# Altium schematic symbol library Schlib1.SchLib: 35 symbols (part 1 of 2)
Pins are listed as number, name and electrical type; pins without a type are passive.

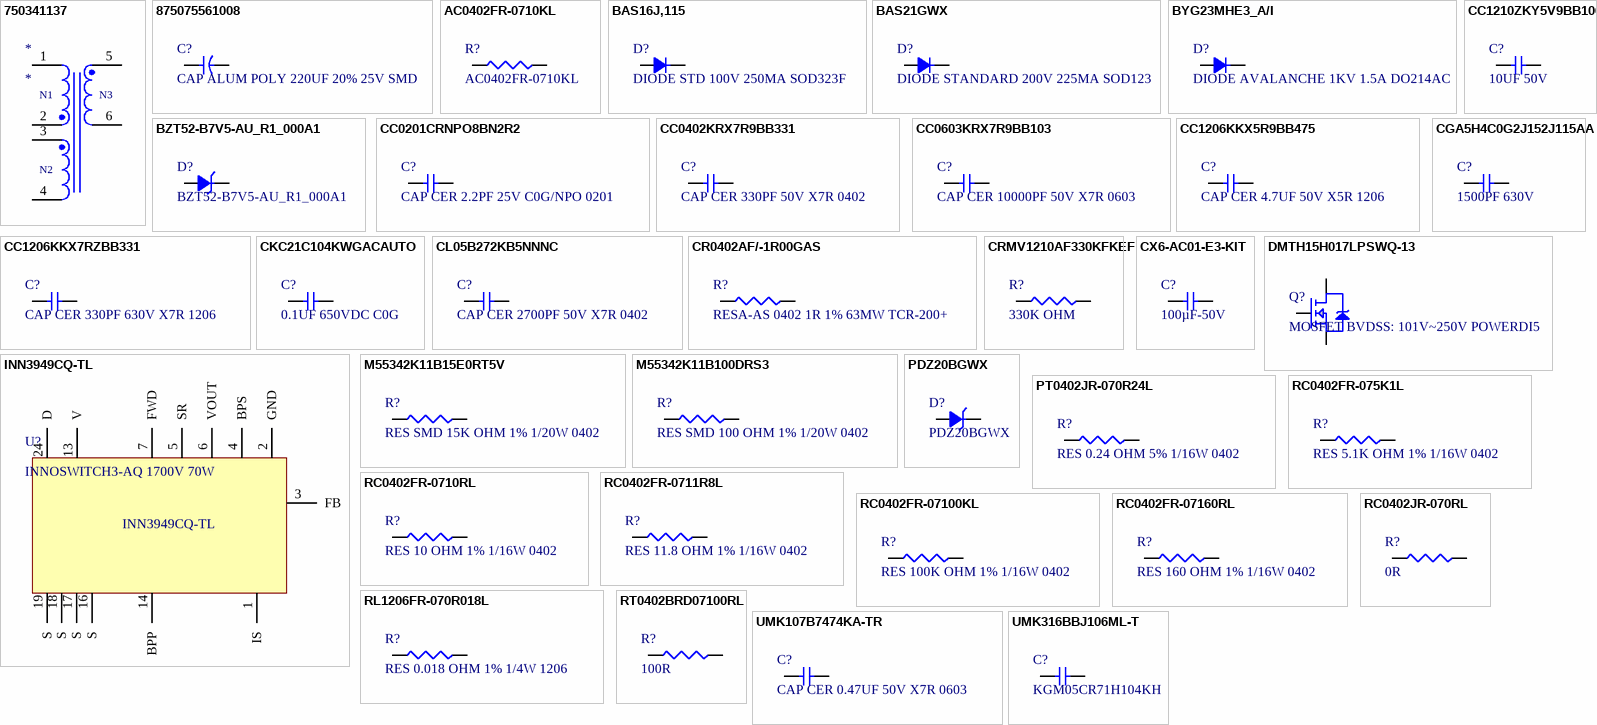
[diagram p0: symbols 750341137 to UMK316BBJ106ML-T]

## 750341137
designator *
Transformer 480UH SMD; Manufacturer: Wurth Electronics; Manufacturer Part Number: 750341137; Frequency: 700kHz; Supplier: Digikey; Supplier Part Number: 732-4446-2-ND; RoHS: Yes; Category: Transformers; Pricing: 1035=9.33725 (USD); Mounting Technology: Surface Mount; Case/Package: SMD/SMT; Min Operating Temperature: -40°C; Max Operating Temperature: 125°C; Package Quantity: 1; Packaging: Tape and Reel; Termination: Terminals; Value: 480uH; Series: -; Length: 29.3mm; Width: 26.67mm; Height: 10.5mm; Height - Seated (Max): 10.5mm; RoHS Compliant: Yes; ComponentLink1URL: https://datasheet.ciiva.com/24028/750341137-254371-24028351.pdf?src-supplier=Mouser; ComponentLink1Description: https://datasheet.ciiva.com/24028/750341137-254371-24028351.pdf?src-supplier=Mouser
footprint ERI25/10/18_250-1446
pins: 1, 2, 3, 4, 5, 6
text: N1; N3; N2

## 875075561008
designator C?, comment CAP ALUM POLY 220UF 20% 25V SMD
220 µF 25 V Aluminum - Polymer Capacitors Radial, Can - SMD 15mOhm 2000 Hrs @ 105°C; Manufacturer: Wurth Electronics; Manufacturer Part Number: 875075561008; Description: WCAP-PSLC Aluminum Polymer Capacitors; ESR (Equivalent Series Resistance): 15mR; Ripple Current: 4.8A; Leakage Current: 1.1mA; Pitch: 10.3mm; Supplier: Digikey; Supplier Part Number: 732-6502-1-ND; RoHS: Yes; Category: Polymer Capacitors; Stock: 759; Pricing: 1=2.03, 50=1.7352, 100=1.512 (USD); Mounting Technology: Surface Mount; Case/Package: Radial; Min Operating Temperature: -55°C; Max Operating Temperature: 105°C; Package Quantity: 1; Packaging: Cut Tape; Voltage Rating: 25V; Tolerance: 20%; Voltage Rating (DC): 25V; Value: 220uF; Series: WCAP-PSLC; Diameter: 10mm; Length: 12.4mm; Width: 10.3mm; Height - Seated (Max): 0.488inch; RoHS Compliant: Yes; Reach SVHC Compliant: Unknown; ComponentLink1URL: http://www.farnell.com/datasheets/1880469.pdf?src-supplier=Farnell; ComponentLink1Description: http://www.farnell.com/datasheets/1880469.pdf?src-supplier=Farnell; ComponentLink2URL: http://katalog.we-online.de/pbs/datasheet/875075561008.pdf?src-supplier=Digikey; ComponentLink2Description: http://katalog.we-online.de/pbs/datasheet/875075561008.pdf?src-supplier=Digikey; ComponentLink3URL: https://katalog.we-online.de/pbs/datasheet/875075561008.pdf?src-supplier=Digikey; ComponentLink3Description: https://katalog.we-online.de/pbs/datasheet/875075561008.pdf?src-supplier=Digikey; ComponentLink4URL: http://www.farnell.com/datasheets/1880469.pdf?src-supplier=Element14; ComponentLink4Description: http://www.farnell.com/datasheets/1880469.pdf?src-supplier=Element14
footprint WCAP-PSLC_D8H11.7 (Aluminum Polymer Capacitor, Diameter 8mm)
pins: 1, 2  2 

## AC0402FR-0710KL
designator R?
SMD Chip Resistor, 10 kOhm, ï¿½ 1%, 62.5 mW, 0402 [1005 Metric], Thick Film, General Purpose; Manufacturer: Yageo; Value: 10kR; Power Rating: 62.5mW; Voltage Rating: 50V; Temperature Coefficient: 100ppm/°C; Max Power Dissipation: 63mW; Supplier: Future Electronics; Supplier Part Number: 2025338; Manufacturer Part Number: AC0402FR-0710KL; RoHS: Yes; Category: Chip SMD Resistors; Stock: 15445000; Pricing: 10000=0.0011, 40000=0.001, 150000=0.001, 400000=0.001, 1000000=0.0009 (USD); Case/Package: 0402; Case Code (Imperial): 0402; Case Code (Metric): 1005; Min Operating Temperature: -55°C; Max Operating Temperature: 155°C; Tolerance: 1%; Packaging: Tape and Reel; Termination: SMD/SMT; Number of Terminations: 2; Features: Moisture Resistant,Automotive AEC-Q200; Series: AC; Length: 0.039inch; Width: 0.02inch; Height: 0.015inch; RoHS Compliant: Yes; ComponentLink1URL: https://datasheet.ciiva.com/12656/pyu-ac-51-rohs-l-2-12656634.pdf?src-supplier=Mouser; ComponentLink1Description: https://datasheet.ciiva.com/12656/pyu-ac-51-rohs-l-2-12656634.pdf?src-supplier=Mouser
pins: 1, 2

## BAS16J,115
designator D?, comment DIODE STD 100V 250MA SOD323F
Diode 100 V 250mA Surface Mount SOD-323F; Manufacturer: Nexperia; Manufacturer Part Number: BAS16J,115; Description: Rectifier Diode Switching 100V 0.25A 4ns Automotive 2-Pin SOD-323F T/R; Value: 1.5pF; Max Forward Surge Current (Ifsm): 500mA; Max Reverse Current: 500nA; Supplier: Future Electronics; Supplier Part Number: 4759361; RoHS: Yes; Category: Rectifier Diodes; Stock: 279000; Pricing: 3000=0.0139, 9000=0.0136, 15000=0.0135, 60000=0.013, 90000=0.0128 (USD); Pins: 2; Max Operating Temperature: 150°C; Forward Current: 250mA; Max Repetitive Reverse Voltage (Vrrm): 100V; Reverse Voltage: 100V; Height: 800um; RoHS Compliant: Yes; ComponentLink1URL: http://www.farnell.com/datasheets/1856332.pdf?src-supplier=Farnell; ComponentLink1Description: http://www.farnell.com/datasheets/1856332.pdf?src-supplier=Farnell; ComponentLink2URL: https://assets.nexperia.com/documents/data-sheet/BAS16_SER.pdf?src-supplier=Digikey; ComponentLink2Description: https://assets.nexperia.com/documents/data-sheet/BAS16_SER.pdf?src-supplier=Digikey; ComponentLink3URL: http://www.farnell.com/datasheets/1856332.pdf?src-supplier=Newark; ComponentLink3Description: http://www.farnell.com/datasheets/1856332.pdf?src-supplier=Newark; ComponentLink4URL: https://datasheet.octopart.com/BAS16J%2C115-Nexperia-datasheet-81455687.pdf?src-supplier=TME; ComponentLink4Description: https://datasheet.octopart.com/BAS16J%2C115-Nexperia-datasheet-81455687.pdf?src-supplier=TME
pins: 1, 2

## BAS21GWX
designator D?, comment DIODE STANDARD 200V 225MA SOD123
Diode 200 V 225mA Surface Mount SOD-123; Manufacturer: Nexperia; Manufacturer Part Number: BAS21GWX; Description: Rectifier Diode Switching 250V 0.225A 50ns Automotive 2-Pin SOD-123 T/R; Supplier: Digikey; Supplier Part Number: 1727-7323-1-ND; RoHS: Yes; Category: Rectifier Diodes; Stock: 49148; Pricing: 1=0.11, 10=0.073, 100=0.054, 500=0.04164, 1000=0.0363 (USD); RoHS Compliant: Yes; ComponentLink1URL: http://www.farnell.com/datasheets/2290146.pdf?src-supplier=Farnell; ComponentLink1Description: http://www.farnell.com/datasheets/2290146.pdf?src-supplier=Farnell; ComponentLink2URL: https://datasheet.octopart.com/BAS21GWX-Nexperia-datasheet-87842693.pdf?src-supplier=Future+Electronics; ComponentLink2Description: https://datasheet.octopart.com/BAS21GWX-Nexperia-datasheet-87842693.pdf?src-supplier=Future+Electronics; ComponentLink3URL: http://www.farnell.com/datasheets/2290146.pdf?src-supplier=Newark; ComponentLink3Description: http://www.farnell.com/datasheets/2290146.pdf?src-supplier=Newark; ComponentLink4URL: https://datasheet.octopart.com/BAS21GWX-Nexperia-datasheet-82522482.pdf?src-supplier=Newark; ComponentLink4Description: https://datasheet.octopart.com/BAS21GWX-Nexperia-datasheet-82522482.pdf?src-supplier=Newark; ComponentLink5URL: http://www.farnell.com/datasheets/2290146.pdf?src-supplier=Element14; ComponentLink5Description: http://www.farnell.com/datasheets/2290146.pdf?src-supplier=Element14
pins: 1, 2

## BYG23MHE3_A/I
designator D?, comment DIODE AVALANCHE 1KV 1.5A DO214AC
Diode 1000 V 1.5A Surface Mount DO-214AC (SMA); Manufacturer: Vishay; Manufacturer Part Number: BYG23MHE3_A/I; Description: 1.5A, 1000V, 75Ns Fast Avalanche Smd |Vishay BYG23MHE3_A/I; Supplier: Mouser; Supplier Part Number: 78-BYG23MHE3_A/I; RoHS: Yes; Category: Rectifier Diodes; Stock: 5398; Pricing: 1=0.48, 10=0.32, 50=0.32, 100=0.205, 1000=0.14, 10000=0.112 (USD); RoHS Compliant: Yes
pins: 1, 2

## BZT52-B7V5-AU_R1_000A1
designator D?
Zener Diode 7.5 V 410 mW ±2% Surface Mount SOD-123; Manufacturer: Panjit; Description: Diode Zener 7.5V 410MW SOD123; Supplier: Digikey; Supplier Part Number: 3757-BZT52-B7V5-AU_R1_000A1CT-ND; Manufacturer Part Number: BZT52-B7V5-AU_R1_000A1; Stock: 2870; Pricing: 1=0.13, 10=0.089, 100=0.046, 500=0.0435, 1000=0.041 (USD)
pins: 1, 2

## CC0201CRNPO8BN2R2
designator C?, comment CAP CER 2.2PF 25V C0G/NPO 0201
2.2 pF ±0.25pF 25V Ceramic Capacitor C0G, NP0 0201 (0603 Metric); Manufacturer: Yageo; Manufacturer Part Number: CC0201CRNPO8BN2R2; Description: Cap Ceramic 2.2pF 25V C0G 0.25pF SMD 0201 125°C Paper T/R; Supplier: Future Electronics; Supplier Part Number: 8113593; RoHS: Yes; Category: Ceramic Capacitors; Stock: 15000; Pricing: 15000=0.0015, 60000=0.0014, 150000=0.0014, 375000=0.0014, 600000=0.0013 (USD); Mounting Technology: Surface Mount; Case/Package: 0201; Case Code (Imperial): 0201; Case Code (Metric): 0603; Min Operating Temperature: -55°C; Max Operating Temperature: 125°C; Packaging: Cut Tape; Value: 2.2pF; Voltage Rating: 25V; Series: CC; Length: 0.024inch; Width: 0.012inch; Thickness: 0.013inch; RoHS Compliant: Yes; ComponentLink1URL: http://www.yageo.com/NewPortal/yageodocoutput?fileName=/pdf/MLCC/UPY-GP_NP0_16V-to-50V_14.pdf&src-supplier=Digikey; ComponentLink1Description: http://www.yageo.com/NewPortal/yageodocoutput?fileName=/pdf/MLCC/UPY-GP_NP0_16V-to-50V_14.pdf&src-supplier=Digikey; ComponentLink2URL: https://www.yageo.com/upload/media/product/productsearch/datasheet/mlcc/UPY-GP_NP0_16V-to-50V_18.pdf?src-supplier=Digikey; ComponentLink2Description: https://www.yageo.com/upload/media/product/productsearch/datasheet/mlcc/UPY-GP_NP0_16V-to-50V_18.pdf?src-supplier=Digikey
pins: 1, 2  2 

## CC0402KRX7R9BB331
designator C?, comment CAP CER 330PF 50V X7R 0402
330 pF ±10% 50V Ceramic Capacitor X7R 0402 (1005 Metric); Manufacturer: Yageo; Manufacturer Part Number: CC0402KRX7R9BB331; Description: 0402 330 pF 50 V ±10 % Tolerance X7R SMT Multilayer Ceramic Capacitor; Insulation Resistance: 100GR; Temperature Coefficient: 30ppm/°C; Supplier: Future Electronics; Supplier Part Number: 6360333; RoHS: Yes; Category: Ceramic Capacitors; Stock: 80000; Pricing: 10000=0.0017, 40000=0.0016, 150000=0.0015, 300000=0.0015, 750000=0.0014 (USD); Mounting Technology: Surface Mount; Case/Package: 0402; Case Code (Imperial): 0402; Case Code (Metric): 1005; Dielectric Material: Ceramic; Material: Ceramic; Min Operating Temperature: -55°C; Max Operating Temperature: 125°C; Value: 330pF; Packaging: Tape and Reel; Tolerance: 10%; Voltage Rating: 50V; Voltage Rating (DC): 50V; Package Quantity: 1; Dielectric: X7R; Termination: SMD/SMT; Series: CC; Voltage Rating (AC): 50V; Length: 1mm; Width: 0.02inch; Height: 0.5mm; Thickness: 0.022inch; Depth: 0.5mm; Radiation Hardening: No; Reach SVHC Compliant: No; Lead Free: Lead Free; Halogen Free: Halogen Free; RoHS Compliant: Yes; ComponentLink1URL: https://datasheet.ciiva.com/143/mlccorderingcode-143965.pdf?src-supplier=Digikey; ComponentLink1Description: https://datasheet.ciiva.com/143/mlccorderingcode-143965.pdf?src-supplier=Digikey; ComponentLink2URL: https://datasheet.ciiva.com/143/mlccorderingcode-143966.pdf?src-supplier=Digikey; ComponentLink2Description: https://datasheet.ciiva.com/143/mlccorderingcode-143966.pdf?src-supplier=Digikey; ComponentLink3URL: https://datasheet.ciiva.com/143/mlccorderingcode-143967.pdf?src-supplier=Digikey; ComponentLink3Description: https://datasheet.ciiva.com/143/mlccorderingcode-143967.pdf?src-supplier=Digikey; ComponentLink4URL: https://datasheet.ciiva.com/11464/upy-gphc-x7r-6-3v-to-50v-8-11464908.pdf?src-supplier=Avnet; ComponentLink4Description: https://datasheet.ciiva.com/11464/upy-gphc-x7r-6-3v-to-50v-8-11464908.pdf?src-supplier=Avnet; ComponentLink5URL: https://datasheet.ciiva.com/7978/1489800-7978101.pdf?src-supplier=Element14; ComponentLink5Description: https://datasheet.ciiva.com/7978/1489800-7978101.pdf?src-supplier=Element14; ComponentLink6URL: https://datasheet.ciiva.com/8033/1489800-8033628.pdf?src-supplier=Element14; ComponentLink6Description: https://datasheet.ciiva.com/8033/1489800-8033628.pdf?src-supplier=Element14; ComponentLink7URL: https://datasheet.ciiva.com/8033/1489800-8033629.pdf?src-supplier=Element14; ComponentLink7Description: https://datasheet.ciiva.com/8033/1489800-8033629.pdf?src-supplier=Element14; ComponentLink8URL: https://datasheet.ciiva.com/46394/1489800-46394572.pdf?src-supplier=Element14; ComponentLink8Description: https://datasheet.ciiva.com/46394/1489800-46394572.pdf?src-supplier=Element14; ComponentLink9URL: https://datasheet.ciiva.com/5425/upy-gphc-x7r-6-3v-to-50v-8-5425451.pdf?src-supplier=Mouser; ComponentLink9Description: https://datasheet.ciiva.com/5425/upy-gphc-x7r-6-3v-to-50v-8-5425451.pdf?src-supplier=Mouser
pins: 1, 2  2 

## CC0603KRX7R9BB103
designator C?, comment CAP CER 10000PF 50V X7R 0603
10000 pF ±10% 50V Ceramic Capacitor X7R 0603 (1608 Metric); Manufacturer: Yageo; Manufacturer Part Number: CC0603KRX7R9BB103; Description: 0603 10 nF 50 V ±10 % Tolerance X7R SMT Multilayer Ceramic Capacitor; Value: 10nF; Insulation Resistance: 100GR; Supplier: Future Electronics; Supplier Part Number: 4131256; RoHS: Yes; Category: Ceramic Capacitors; Stock: 3216000; Pricing: 4000=0.003, 16000=0.0029, 60000=0.0028, 160000=0.0027, 400000=0.0026 (USD); Mounting Technology: Surface Mount; Case/Package: 0603; Pins: 2; Case Code (Metric): 1608; Case Code (Imperial): 0603; Material: Ceramic; Min Operating Temperature: -55°C; Max Operating Temperature: 125°C; Tolerance: 10%; Packaging: Tape and Reel; Voltage Rating: 50V; Voltage Rating (DC): 50V; Package Quantity: 1; Dielectric: X7R; Termination: SMD/SMT; Voltage: 50V; Series: CC; Length: 1.6mm; Width: 0.031inch; Height: 0.8mm; Thickness: 0.035inch; Depth: 0.8mm; Radiation Hardening: No; Lead Free: Lead Free; RoHS Compliant: Yes; Reach SVHC Compliant: Unknown; Halogen Free: 5694HalogenFree; ComponentLink1URL: https://datasheet.ciiva.com/26862/getdatasheetpartid-403582-26862846.pdf?src-supplier=Verical; ComponentLink1Description: https://datasheet.ciiva.com/26862/getdatasheetpartid-403582-26862846.pdf?src-supplier=Verical; ComponentLink2URL: https://datasheet.ciiva.com/11788/0900766b8079c870-11788374.pdf?src-supplier=Rs; ComponentLink2Description: https://datasheet.ciiva.com/11788/0900766b8079c870-11788374.pdf?src-supplier=Rs; ComponentLink3URL: https://datasheet.ciiva.com/176/mlccorderingcode-176550.pdf?src-supplier=Digikey; ComponentLink3Description: https://datasheet.ciiva.com/176/mlccorderingcode-176550.pdf?src-supplier=Digikey; ComponentLink4URL: https://datasheet.ciiva.com/176/mlccorderingcode-176551.pdf?src-supplier=Digikey; ComponentLink4Description: https://datasheet.ciiva.com/176/mlccorderingcode-176551.pdf?src-supplier=Digikey; ComponentLink5URL: https://datasheet.ciiva.com/176/mlccorderingcode-176552.pdf?src-supplier=Digikey; ComponentLink5Description: https://datasheet.ciiva.com/176/mlccorderingcode-176552.pdf?src-supplier=Digikey; ComponentLink6URL: https://datasheet.ciiva.com/8033/1734573-8033816.pdf?src-supplier=Element14; ComponentLink6Description: https://datasheet.ciiva.com/8033/1734573-8033816.pdf?src-supplier=Element14; ComponentLink7URL: https://datasheet.ciiva.com/8033/70765-8033817.pdf?src-supplier=Element14; ComponentLink7Description: https://datasheet.ciiva.com/8033/70765-8033817.pdf?src-supplier=Element14; ComponentLink8URL: https://datasheet.ciiva.com/8033/1734573-8033861.pdf?src-supplier=Element14; ComponentLink8Description: https://datasheet.ciiva.com/8033/1734573-8033861.pdf?src-supplier=Element14; ComponentLink9URL: https://datasheet.ciiva.com/28450/1489800-28450619.pdf?src-supplier=Element14; ComponentLink9Description: https://datasheet.ciiva.com/28450/1489800-28450619.pdf?src-supplier=Element14; ComponentLink10URL: https://datasheet.ciiva.com/13389/upy-gphc-x7r-6-3v-to-50v-8-13389991.pdf?src-supplier=Mouser; ComponentLink10Description: https://datasheet.ciiva.com/13389/upy-gphc-x7r-6-3v-to-50v-8-13389991.pdf?src-supplier=Mouser
pins: 1, 2  2 

## CC1206KKX5R9BB475
designator C?, comment CAP CER 4.7UF 50V X5R 1206
4.7 µF ±10% 50V Ceramic Capacitor X5R 1206 (3216 Metric); Manufacturer: Yageo; Manufacturer Part Number: CC1206KKX5R9BB475; Description: Multilayer Ceramic Capacitor, 4.7 uF, 50 V, ± 10%, X5R, 1206 [3216 Metric]; Supplier: Future Electronics; Supplier Part Number: 7083448; RoHS: Yes; Category: Ceramic Capacitors; Stock: 10000; Pricing: 2000=0.056, 6000=0.0545, 8000=0.0541, 20000=0.0529, 30000=0.0518 (USD); Mounting Technology: Surface Mount; Case/Package: 1206; Pins: 2; Case Code (Metric): 3216; Case Code (Imperial): 1206; Weight: 0.000571oz; Material: Ceramic; Min Operating Temperature: -55°C; Max Operating Temperature: 85°C; Packaging: Tape and Reel; Value: 4.7uF; Voltage Rating: 50V; Tolerance: 10%; Dielectric: X5R; Termination: SMD/SMT; Voltage Rating (DC): 50V; Package Quantity: 2000; Series: CC; Length: 0.126inch; Width: 0.063inch; Height: 1.45mm; Thickness: 0.071inch; Lead Free: Lead Free; Halogen Free: Halogen Free; RoHS Compliant: Yes; ComponentLink1URL: http://www.mouser.com/ds/2/447/Yageo_UPY-GP_NP0_16V-to-50V_9-358835.pdf?src-supplier=Mouser; ComponentLink1Description: http://www.mouser.com/ds/2/447/Yageo_UPY-GP_NP0_16V-to-50V_9-358835.pdf?src-supplier=Mouser; ComponentLink2URL: http://www.yageo.com/documents/recent/UPY-GPHC_X5R_4V-to-50V_25.pdf?src-supplier=Digikey; ComponentLink2Description: http://www.yageo.com/documents/recent/UPY-GPHC_X5R_4V-to-50V_25.pdf?src-supplier=Digikey; ComponentLink3URL: https://datasheet.octopart.com/CC1206KKX5R9BB475-Yageo-datasheet-158238148.pdf?src-supplier=Newark; ComponentLink3Description: https://datasheet.octopart.com/CC1206KKX5R9BB475-Yageo-datasheet-158238148.pdf?src-supplier=Newark; ComponentLink4URL: https://datasheet.octopart.com/CC1206KKX5R9BB475-Yageo-datasheet-170350636.pdf?src-supplier=Future+Electronics; ComponentLink4Description: https://datasheet.octopart.com/CC1206KKX5R9BB475-Yageo-datasheet-170350636.pdf?src-supplier=Future+Electronics
pins: 1, 2  2 

## CC1206KKX7RZBB331
designator C?, comment CAP CER 330PF 630V X7R 1206
330 pF ±10% 630V Ceramic Capacitor X7R 1206 (3216 Metric); Manufacturer: Yageo; Manufacturer Part Number: CC1206KKX7RZBB331; Description: Cap Ceramic 330pF 630Vdc X7R 10% SMD 1206 125°C T/R; Voltage Rating (AC): 250V; Supplier: Digikey; Supplier Part Number: 13-CC1206KKX7RZBB331CT-ND; RoHS: Yes; Category: Ceramic Capacitors; Stock: 2165; Pricing: 1=0.21, 10=0.118, 100=0.0739, 1000=0.05119 (USD); Mounting Technology: Surface Mount; Case/Package: 1206; Case Code (Imperial): 1206; Case Code (Metric): 3216; Weight: 0.000571oz; Min Operating Temperature: -55°C; Max Operating Temperature: 125°C; Value: 330pF; Packaging: Tape and Reel; Tolerance: 10%; Dielectric: X7R; Voltage Rating: 630V; Termination: SMD/SMT; Series: CC; Length: 0.126inch; Width: 1.6mm; Thickness: 0.057inch; RoHS Compliant: Yes; ComponentLink1URL: https://datasheet.ciiva.com/13265/upy-gp-np0-16v-to-50v-8-3714-13265679.pdf?src-supplier=Mouser; ComponentLink1Description: https://datasheet.ciiva.com/13265/upy-gp-np0-16v-to-50v-8-3714-13265679.pdf?src-supplier=Mouser
pins: 1, 2  2 

## CC1210ZKY5V9BB106
designator C?, comment 10UF 50V
10 µF -20%, +80% 50V Ceramic Capacitor Y5V (F) 1210 (3225 Metric); Manufacturer: Yageo; Manufacturer Part Number: CC1210ZKY5V9BB106; Description: 1210 10 uF 50 V -20 / +80 % Tolerance Y5V Multilayer Ceramic Capacitor; Tolerance: 80%; Supplier: Future Electronics; Supplier Part Number: 7061931; RoHS: Yes; Category: Ceramic Capacitors; Stock: 502000; Pricing: 2000=0.106, 4000=0.105, 6000=0.104, 10000=0.102 (USD); Mounting Technology: Surface Mount; Case/Package: 1210; Case Code (Imperial): 1210; Case Code (Metric): 3225; Weight: 0.000564oz; Min Operating Temperature: -30°C; Max Operating Temperature: 85°C; Value: 10uF; Voltage Rating (DC): 50V; Packaging: Tape and Reel; Dielectric: Y5V; Voltage Rating: 50V; Series: CC; Length: 0.126inch; Width: 0.098inch; Lead Free: Lead Free; Halogen Free: Halogen Free; RoHS Compliant: Yes; ComponentLink1URL: http://www.yageo.com/documents/recent/UPY-GPHC_Y5V_6.3V-to-50V_7.pdf?src-supplier=Digikey; ComponentLink1Description: http://www.yageo.com/documents/recent/UPY-GPHC_Y5V_6.3V-to-50V_7.pdf?src-supplier=Digikey; ComponentLink2URL: http://www.yageo.com/documents/recent/UPY-GPHC_Y5V_6.3V-to-50V_8.pdf?src-supplier=Digikey; ComponentLink2Description: http://www.yageo.com/documents/recent/UPY-GPHC_Y5V_6.3V-to-50V_8.pdf?src-supplier=Digikey; ComponentLink3URL: https://www.yageo.com/upload/media/product/productsearch/datasheet/mlcc/UPY-GPHC_Y5V_6.3V-to-50V_9.pdf?src-supplier=Digikey; ComponentLink3Description: https://www.yageo.com/upload/media/product/productsearch/datasheet/mlcc/UPY-GPHC_Y5V_6.3V-to-50V_9.pdf?src-supplier=Digikey; ComponentLink4URL: https://datasheet.octopart.com/CC1210ZKY5V9BB106-Yageo-datasheet-78855689.pdf?src-supplier=Future+Electronics; ComponentLink4Description: https://datasheet.octopart.com/CC1210ZKY5V9BB106-Yageo-datasheet-78855689.pdf?src-supplier=Future+Electronics
pins: 1, 2  2 

## CGA5H4C0G2J152J115AA
designator C?, comment 1500PF 630V
1500 pF ±5% 630V Ceramic Capacitor C0G, NP0 1206 (3216 Metric); Manufacturer: TDK; Manufacturer Part Number: CGA5H4C0G2J152J115AA; Description: Cap Ceramic 0.0015uF 630V C0G 5% Pad SMD 1206 125C Automotive T/R; Value: 1.5nF; Temperature Coefficient: 30ppm/°C; Supplier: Digikey; Supplier Part Number: 445-5791-1-ND; RoHS: Yes; Category: Ceramic Capacitors; Stock: 26828; Pricing: 1=0.31, 10=0.185, 100=0.1193, 1000=0.08557, 2000=0.07299, 4000=0.06809, 6000=0.06774, 10000=0.06318, 14000=0.06088, 20000=0.06067, 50000=0.05812, 100000=0.05475 (USD); Mounting Technology: Surface Mount; Case/Package: 1206; Case Code (Metric): 3216; Case Code (Imperial): 1206; Weight: 0.000571oz; Material: Ceramic; Min Operating Temperature: -55°C; Max Operating Temperature: 125°C; Voltage Rating (DC): 630V; Tolerance: 5%; Packaging: Tape and Reel; Package Quantity: 1; Voltage Rating: 630V; Dielectric: C0G; Termination: SMD/SMT; Series: CGA; Length: 3.2mm; Width: 0.063inch; Height: 1.15mm; Thickness: 0.051inch; Depth: 1.6mm; Ratings: AEC-Q200; Reach SVHC Compliant: No; RoHS Compliant: Yes; ComponentLink1URL: http://www.farnell.com/datasheets/2130384.pdf?src-supplier=Farnell; ComponentLink1Description: http://www.farnell.com/datasheets/2130384.pdf?src-supplier=Farnell; ComponentLink2URL: http://components.arrow.com/part/dataview/57437045S460270N1165?src-supplier=Arrow+Electronics; ComponentLink2Description: http://components.arrow.com/part/dataview/57437045S460270N1165?src-supplier=Arrow+Electronics; ComponentLink3URL: http://www.mouser.com/ds/2/400/lcc_automotive_midvoltage_en-355485.pdf?src-supplier=Mouser; ComponentLink3Description: http://www.mouser.com/ds/2/400/lcc_automotive_midvoltage_en-355485.pdf?src-supplier=Mouser; ComponentLink4URL: https://product.tdk.com/info/en/documents/chara_sheet/CGA5H4C0G2J152J115AA.pdf?src-supplier=Digikey; ComponentLink4Description: https://product.tdk.com/info/en/documents/chara_sheet/CGA5H4C0G2J152J115AA.pdf?src-supplier=Digikey; ComponentLink5URL: https://product.tdk.com/info/en/catalog/spec/mlccspec_automotive_general_midvoltage_en.pdf?src-supplier=Digikey; ComponentLink5Description: https://product.tdk.com/info/en/catalog/spec/mlccspec_automotive_general_midvoltage_en.pdf?src-supplier=Digikey; ComponentLink6URL: https://datasheet.octopart.com/CGA5H4C0G2J152J115AA-TDK-datasheet-151546527.pdf?src-supplier=Farnell; ComponentLink6Description: https://datasheet.octopart.com/CGA5H4C0G2J152J115AA-TDK-datasheet-151546527.pdf?src-supplier=Farnell; ComponentLink7URL: https://datasheet.octopart.com/CGA5H4C0G2J152J115AA-TDK-datasheet-13376850.pdf?src-supplier=Newark; ComponentLink7Description: https://datasheet.octopart.com/CGA5H4C0G2J152J115AA-TDK-datasheet-13376850.pdf?src-supplier=Newark; ComponentLink8URL: http://www.farnell.com/datasheets/2130384.pdf?src-supplier=Element14; ComponentLink8Description: http://www.farnell.com/datasheets/2130384.pdf?src-supplier=Element14; ComponentLink9URL: http://www.tdk.co.jp/tefe02/e413_cga.pdf?src-supplier=Avnet; ComponentLink9Description: http://www.tdk.co.jp/tefe02/e413_cga.pdf?src-supplier=Avnet
pins: 1, 2  2 

## CKC21C104KWGACAUTO
designator C?, comment 0.1UF 650VDC C0G
0.1 µF ±10% 650V Ceramic Capacitor C0G, NP0 2220 (5750 Metric); Manufacturer: KEMET; Manufacturer Part Number: CKC21C104KWGACAUTO; Description: Kc-link 2220 0.1UF 650VDC C0G; Supplier: Mouser; Supplier Part Number: 80-CKC21C104KWGCAUTO; RoHS: No; Category: Ceramic Capacitors; Stock: 339; Pricing: 1=3.68, 10=2.61, 50=2.6, 100=2.04, 1000=1.65, 10000=1.63 (USD)
pins: 1, 2  2 

## CL05B272KB5NNNC
designator C?, comment CAP CER 2700PF 50V X7R 0402
2700 pF ±10% 50V Ceramic Capacitor X7R 0402 (1005 Metric); Manufacturer: Samsung; Manufacturer Part Number: CL05B272KB5NNNC; Description: Multilayer Ceramic Capacitor, 2700 pF, 50 V, ± 10%, X7R, 0402 [1005 Metric]; Value: 2.7nF; Supplier: Digikey; Supplier Part Number: 1276-1268-1-ND; RoHS: Yes; Category: Ceramic Capacitors; Stock: 44934; Pricing: 1=0.1, 10=0.02, 100=0.0112, 1000=0.00673, 2500=0.00564, 5000=0.005 (USD); Mounting Technology: Surface Mount; Case/Package: 0402; Case Code (Metric): 1005; Case Code (Imperial): 0402; Material: Ceramic; Min Operating Temperature: -55°C; Max Operating Temperature: 125°C; Tolerance: 10%; Packaging: Tape and Reel; Voltage Rating: 50V; Dielectric: X7R; Voltage: 50V; Series: CL; Construction: Flat; Voltage Rating (DC): 50V; Length: 1mm; Height: 0.5mm; Depth: 0.5mm; Radiation Hardening: No; RoHS Compliant: Yes; ComponentLink1URL: https://datasheet.ciiva.com/25806/cl05b272kb5nnnc-25806643.pdf?src-supplier=Digikey; ComponentLink1Description: https://datasheet.ciiva.com/25806/cl05b272kb5nnnc-25806643.pdf?src-supplier=Digikey; ComponentLink2URL: https://datasheet.ciiva.com/16200/cl05b272kb5nnnc-16200555.pdf?src-supplier=Future+Electronics; ComponentLink2Description: https://datasheet.ciiva.com/16200/cl05b272kb5nnnc-16200555.pdf?src-supplier=Future+Electronics; ComponentLink3URL: https://datasheet.ciiva.com/26838/getdatasheetpartid-640423-26838234.pdf?src-supplier=Verical; ComponentLink3Description: https://datasheet.ciiva.com/26838/getdatasheetpartid-640423-26838234.pdf?src-supplier=Verical
pins: 1, 2  2 

## CR0402AF/-1R00GAS
designator R?, comment RESA-AS 0402 1R 1% 63MW TCR-200+
1 Ohms ±1% 0.063W, 1/16W Chip Resistor 0402 (1005 Metric) Anti-Sulfur, Automotive AEC-Q200, Moisture Resistant Thick Film; Manufacturer: Bourns; Manufacturer Part Number: CR0402AF/-1R00GAS; Description: SMD Chip Resistor, 1 Ohm, ± 1%, 63 mW, 0402 [1005 Metric], Thick Film, Anti-Sulfur; Voltage Rating: 50V; Supplier: Arrow Electronics; Supplier Part Number: CR0402AF/-1R00GAS; RoHS: Yes; Category: Chip SMD Resistors; Stock: 60000; Pricing: 10000=0.0012 (USD); Case/Package: 0402; Min Operating Temperature: -55°C; Max Operating Temperature: 155°C; Power Rating: 63mW; Value: 1R; Tolerance: 1%; Height: 370um
pins: 1, 2

## CRMV1210AF330KFKEF
designator R?, comment 330K OHM
330 kOhms ±1% 0.35W Chip Resistor 1210 (3225 Metric) High Voltage Thick Film; Manufacturer: Vishay; Manufacturer Part Number: CRMV1210AF330KFKEF; Description: CRMV1210AF 330K 1% 100 Ef E3; Supplier: Mouser; Supplier Part Number: 71-CRMV1210AF330KFKF; Category: Chip SMD Resistors; Stock: 8000; Pricing: 1=0.61, 10=0.333, 50=0.333, 100=0.206, 1000=0.144, 10000=0.117 (USD)
pins: 1, 2

## CX6-AC01-E3-KIT
designator C?, comment 100µF-50V
Ceramic Capacitor Kit 1µF ~ 100µF 4 ~ 50V Surface Mount, MLCC 110 Pieces (11 Values - 10 Each); Manufacturer: TDK; Manufacturer Part Number: CX6-AC01-E3-KIT; Description: X6S Commercial Mlcc Kit; Supplier: DigiKey; Supplier Part Number: 445-182068-KIT-ND; Pricing: 1=39.16, 10=34.016 (USD)
pins: 1, 2  2 

## DMTH15H017LPSWQ-13
designator Q?, comment MOSFET BVDSS: 101V~250V POWERDI5
N-Channel 150 V 8A (Ta), 50A (Tc) 1.5W (Ta), 107W (Tc) Surface Mount, Wettable Flank PowerDI5060-8 (Type UX); Manufacturer: Diodes; Manufacturer Part Number: DMTH15H017LPSWQ-13; Description: Mosfet Mosfet Bvdss 101V-250V POWERDI5060-8/SWP Tr 2.5K; Drain to Source Breakdown Voltage: 150V; Drain to Source Resistance: 13mR; Gate to Source Voltage (Vgs): 20V; Number of Channels: 1; Turn-Off Delay Time: 44.6ns; Turn-On Delay Time: 10.5ns; Supplier: Digikey; Supplier Part Number: 31-DMTH15H017LPSWQ-13CT-ND; RoHS: No; Category: MOSFETs; Stock: 3956; Pricing: 1=1.92, 10=1.428, 100=1.0169, 500=0.91924, 1000=0.82222 (USD); Min Operating Temperature: -55°C; Max Operating Temperature: 175°C; Continuous Drain Current (ID): 8A; Drain to Source Voltage (Vdss): 150V; Power Dissipation: 1.5W; Height: 1.1mm
pins: 1, 2, 3

## INN3949CQ-TL
designator U?, comment INNOSWITCH3-AQ 1700V 70W
Ac-Dc Conv, Flyback, -40 To 150Deg C Rohs Compliant: Yes |Power Integrations INN3949CQ-TL; Supplier: Digikey; Supplier Part Number: 596-INN3949CQ-TLCT-ND; Manufacturer: Power Integrations; Manufacturer Part Number: INN3949CQ-TL; RoHS: No; Stock: 1849; Pricing: 1=15.11, 100=12.4903 (USD)
pins: 1 IS, 2 GND, 3 FB, 4 BPS, 5 SR, 6 VOUT, 7 FWD, 13 V, 14 BPP, 16 S, 17 S, 18 S, 19 S, 24 D

## M55342K11B15E0RT5V
designator R?, comment RES SMD 15K OHM 1% 1/20W 0402
15 kOhms ±1% 0.05W, 1/20W Chip Resistor 0402 (1005 Metric) Military, Non-Inductive Thin Film; Manufacturer: Vishay Dale; Manufacturer Part Number: M55342K11B15E0RT5V; Description: Res Thnflm 0402 15K Ohm 0.05W 1% 100PPM 0.01% SMD; Value: 15kR; Max Power Dissipation: 50mW; Temperature Coefficient: 100ppm/°C; Supplier: Digikey; Supplier Part Number: 764-M55342K11B15E0RT5VTR-ND; RoHS: No; Category: Chip SMD Resistors; Pricing: 500=1.3608 (USD); Case/Package: 0402; Case Code (Metric): 1005; Case Code (Imperial): 0402; Min Operating Temperature: -55°C; Max Operating Temperature: 150°C; Package Quantity: 500; Packaging: Tape and Reel; Tolerance: 1%; Number of Terminations: 2; Failure Rate: 0.01%; Features: Military; Series: Military, MIL-PRF-55342, RM0402; Length: 0.04inch; Width: 0.025inch; Height: 0.03inch; Thickness: 254um; RoHS Compliant: No; ComponentLink1URL: https://datasheet.ciiva.com/14998/eh-14998168.pdf?src-supplier=Digikey; ComponentLink1Description: https://datasheet.ciiva.com/14998/eh-14998168.pdf?src-supplier=Digikey
pins: 1, 2

## M55342K11B100DRS3
designator R?, comment RES SMD 100 OHM 1% 1/20W 0402
100 Ohms ±1% 0.05W, 1/20W Chip Resistor 0402 (1005 Metric) Military Thick Film; Manufacturer: Vishay Dale; Manufacturer Part Number: M55342K11B100DRS3; Description: SMD Chip Resistor, 100 Ohm, ± 1%, 50 mW, 0402 [1005 Metric], Thick Film, Military Reliability; Value: 100R; Max Power Dissipation: 50mW; Temperature Coefficient: 100ppm/°C; Supplier: Mouser; Supplier Part Number: 75-M55342K11B100DRS3; RoHS: No; Category: Chip SMD Resistors; Stock: 980; Pricing: 1=1.82, 10=1.24, 50=1.24, 100=0.962, 1000=0.836, 10000=0.75 (USD); Case/Package: 0402; Case Code (Metric): 1005; Case Code (Imperial): 0402; Contact Plating: Tin,Lead; Min Operating Temperature: -55°C; Max Operating Temperature: 150°C; Package Quantity: 1; Tolerance: 1%; Packaging: Tape and Reel; Number of Terminations: 2; Failure Rate: 0.01%; Features: Military; Series: Military, MIL-PRF-55342, RM0402; Construction: Rectangular; Length: 0.039inch; Width: 0.02inch; Height: 0.016inch; Depth: 0.51mm; Radiation Hardening: No; Military Standard: MIL-PRF-55342; RoHS Compliant: No; ComponentLink1URL: https://datasheet.ciiva.com/2528/rcwpm-2528448.pdf?src-supplier=Digikey; ComponentLink1Description: https://datasheet.ciiva.com/2528/rcwpm-2528448.pdf?src-supplier=Digikey; ComponentLink2URL: https://datasheet.ciiva.com/14075/rcwpm-14075307.pdf?src-supplier=Digikey; ComponentLink2Description: https://datasheet.ciiva.com/14075/rcwpm-14075307.pdf?src-supplier=Digikey; ComponentLink3URL: https://datasheet.ciiva.com/14075/rcwpm-14075308.pdf?src-supplier=Digikey; ComponentLink3Description: https://datasheet.ciiva.com/14075/rcwpm-14075308.pdf?src-supplier=Digikey; ComponentLink4URL: https://datasheet.ciiva.com/8980/rcwpm-8980509.pdf?src-supplier=Avnet; ComponentLink4Description: https://datasheet.ciiva.com/8980/rcwpm-8980509.pdf?src-supplier=Avnet
pins: 1, 2

## PDZ20BGWX
designator D?
DIODE ZENER 20V 365MW SOD123; Manufacturer: Nexperia; Description: PDZ20BGW/SOD123/SOD2; Supplier: Digikey; Supplier Part Number: 1727-PDZ20BGWXCT-ND; Manufacturer Part Number: PDZ20BGWX; RoHS: Yes; Category: Zener Diodes; Stock: 4330; Pricing: 1=0.17, 10=0.106, 100=0.0652, 500=0.04742, 1000=0.04163 (USD); RoHS Compliant: Yes; ComponentLink1URL: https://datasheet.octopart.com/PDZ20BGWX-Nexperia-datasheet-96189609.pdf?src-supplier=Farnell; ComponentLink1Description: https://datasheet.octopart.com/PDZ20BGWX-Nexperia-datasheet-96189609.pdf?src-supplier=Farnell
pins: 1, 2

## PT0402JR-070R24L
designator R?, comment RES 0.24 OHM 5% 1/16W 0402
Current Sensor-Low TCR Chip Resistor Thick Film 0402 240mOhm 5% Paper T/R; Manufacturer: Yageo; Manufacturer Part Number: PT0402JR-070R24L; Value: 240mR; Max Power Dissipation: 63mW; Temperature Coefficient: 200ppm/°C; Supplier: Digikey; Supplier Part Number: PT0402JR-070R24L-ND; RoHS: Yes; Category: Chip SMD Resistors; Pricing: 10000=0.04053 (USD); Case/Package: 0402; Min Operating Temperature: -55°C; Max Operating Temperature: 155°C; Packaging: Tape and Reel; Number of Terminations: 2; Tolerance: 5%; Features: Moisture Resistant,Automotive AEC-Q200; Series: PT; Ratings: AEC-Q200; RoHS Compliant: Yes; ComponentLink1URL: https://www.yageo.com/upload/media/product/productsearch/datasheet/rchip/PYu-PT-Group_521_RoHS_L_2.pdf?src-supplier=Digikey; ComponentLink1Description: https://www.yageo.com/upload/media/product/productsearch/datasheet/rchip/PYu-PT-Group_521_RoHS_L_2.pdf?src-supplier=Digikey
pins: 1, 2

## RC0402FR-075K1L
designator R?, comment RES 5.1K OHM 1% 1/16W 0402
5.1 kOhms ±1% 0.063W, 1/16W Chip Resistor 0402 (1005 Metric) Moisture Resistant Thick Film; Manufacturer: Yageo; Manufacturer Part Number: RC0402FR-075K1L; Description: SMD Chip Resistor, 5.1 kOhm, ï¿½ 1%, 62.5 mW, 0402 [1005 Metric], Thick Film, General Purpose; Power Rating: 63mW; Voltage Rating: 50V; Value: 5.1kR; Temperature Coefficient: 100ppm/°C; Supplier: Future Electronics; Supplier Part Number: 6053649; RoHS: Yes; Category: Chip SMD Resistors; Stock: 240000; Pricing: 10000=0.0007, 50000=0.0007, 200000=0.0007, 500000=0.0007, 1250000=0.0006 (USD); Case/Package: 0402; Case Code (Metric): 1005; Case Code (Imperial): 0402; Min Operating Temperature: -55°C; Max Operating Temperature: 155°C; Tolerance: 1%; Packaging: Tape and Reel; Package Quantity: 1; Resistor Type: Thick Film; Number of Terminations: 2; Termination: SMD/SMT; Max Power Dissipation: 63mW; Voltage Rating (DC): 50V; Features: Moisture Resistant; Series: RC; Resistance Tolerance: 1%; Technology: THICK FILM; Working Voltage: 50V; Construction: Rectangular; Length: 1mm; Width: 0.02inch; Height: 0.016inch; Depth: 0.5mm; Lead Free: Lead Free; RoHS Compliant: Yes; Reach SVHC Compliant: Unknown; Military Standard: Not
pins: 1, 2

## RC0402FR-0710RL
designator R?, comment RES 10 OHM 1% 1/16W 0402
Res Thick Film 0402 11.8 Ohm 1% 0.063W(1/16W) ±100ppm/C Pad SMD T/R; Manufacturer: Yageo; Manufacturer Part Number: RC0402FR-0710RL; Description: SMD Chip Resistor, 10 Ohm, ï¿½ 1%, 62.5 mW, 0402 [1005 Metric], Thick Film, General Purpose; Power Rating: 62.5mW; Voltage Rating: 50V; Value: 10R; Temperature Coefficient: 200ppm/°C; Max Power Dissipation: 63mW; Supplier: Digikey; Supplier Part Number: 311-10.0LRCT-ND; RoHS: Yes; Category: Chip SMD Resistors; Stock: 589245; Pricing: 1=0.1, 10=0.011, 100=0.0082, 1000=0.00612, 2500=0.0051, 10000=0.0039, 20000=0.00349, 30000=0.00329, 50000=0.00307, 70000=0.00295, 100000=0.00283, 250000=0.00259, 500000=0.00245, 1000000=0.00234 (USD); Case/Package: 0402; Case Code (Imperial): 0402; Case Code (Metric): 1005; Min Operating Temperature: -55°C; Max Operating Temperature: 155°C; Tolerance: 1%; Packaging: Tape and Reel; Termination: SMD/SMT; Resistor Type: Thick Film; Number of Terminations: 2; Features: Moisture Resistant; Series: RC; Resistance Tolerance: 1%; Technology: THICK FILM; Construction: Rectangular; Working Voltage: 50V; Voltage Rating (AC): 50V; Length: 1mm; Height: 0.32mm; Depth: 0.5mm; Reach SVHC Compliant: No; Military Standard: Not; Lead Free: Lead Free; RoHS Compliant: Yes; ComponentLink1URL: https://datasheet.ciiva.com/11808/0900766b80c66297-11808764.pdf?src-supplier=Rs; ComponentLink1Description: https://datasheet.ciiva.com/11808/0900766b80c66297-11808764.pdf?src-supplier=Rs; ComponentLink2URL: https://datasheet.ciiva.com/46394/1018594-46394954.pdf?src-supplier=Element14; ComponentLink2Description: https://datasheet.ciiva.com/46394/1018594-46394954.pdf?src-supplier=Element14; ComponentLink3URL: https://datasheet.ciiva.com/15189/getdatasheetpartid-323697-15189339.pdf?src-supplier=Verical; ComponentLink3Description: https://datasheet.ciiva.com/15189/getdatasheetpartid-323697-15189339.pdf?src-supplier=Verical; ComponentLink4URL: https://datasheet.ciiva.com/7849/1018594-7849818.pdf?src-supplier=Element14; ComponentLink4Description: https://datasheet.ciiva.com/7849/1018594-7849818.pdf?src-supplier=Element14; ComponentLink5URL: https://datasheet.ciiva.com/7849/1018594-7849819.pdf?src-supplier=Element14; ComponentLink5Description: https://datasheet.ciiva.com/7849/1018594-7849819.pdf?src-supplier=Element14; Contact Plating: Tin,Matte; Width: 0.5mm; ComponentLink6URL: https://datasheet.ciiva.com/8891/pyu-rc0402-51-rohs-l-6-8891080.pdf?src-supplier=Avnet; ComponentLink6Description: https://datasheet.ciiva.com/8891/pyu-rc0402-51-rohs-l-6-8891080.pdf?src-supplier=Avnet; ComponentLink7URL: https://datasheet.ciiva.com/12561/pyu-rc0402-51-rohs-l-6-r-8721-12561260.pdf?src-supplier=Mouser; ComponentLink7Description: https://datasheet.ciiva.com/12561/pyu-rc0402-51-rohs-l-6-r-8721-12561260.pdf?src-supplier=Mouser
pins: 1, 2

## RC0402FR-0711R8L
designator R?, comment RES 11.8 OHM 1% 1/16W 0402
Res Thick Film 0402 11.8 Ohm 1% 0.063W(1/16W) ±100ppm/C Pad SMD T/R; Manufacturer: Yageo; Manufacturer Part Number: RC0402FR-0711R8L; Value: 11.8R; Power Rating: 62.5mW; Voltage Rating: 50V; Max Power Dissipation: 63mW; Temperature Coefficient: 100ppm/°C; Supplier: Digikey; Supplier Part Number: YAG2961CT-ND; RoHS: Yes; Category: Chip SMD Resistors; Stock: 25855; Pricing: 1=0.1, 10=0.008, 100=0.0051, 1000=0.00459, 2500=0.00408 (USD); Case/Package: 0402; Case Code (Imperial): 0402; Case Code (Metric): 1005; Contact Plating: Tin,Matte; Min Operating Temperature: -55°C; Max Operating Temperature: 155°C; Tolerance: 1%; Packaging: Tape and Reel; Number of Terminations: 2; Termination: SMD/SMT; Features: Moisture Resistant; Series: RC; Length: 0.039inch; Width: 0.5mm; Height: 0.016inch; RoHS Compliant: Yes; ComponentLink1URL: https://datasheet.ciiva.com/8891/pyu-rc0402-51-rohs-l-6-8891080.pdf?src-supplier=Avnet; ComponentLink1Description: https://datasheet.ciiva.com/8891/pyu-rc0402-51-rohs-l-6-8891080.pdf?src-supplier=Avnet; ComponentLink2URL: https://datasheet.ciiva.com/12561/pyu-rc0402-51-rohs-l-6-r-8721-12561260.pdf?src-supplier=Mouser; ComponentLink2Description: https://datasheet.ciiva.com/12561/pyu-rc0402-51-rohs-l-6-r-8721-12561260.pdf?src-supplier=Mouser
pins: 1, 2

## RC0402FR-07100KL
designator R?, comment RES 100K OHM 1% 1/16W 0402
Res General Purpose Thick Film 0402 100K Ohm 1% 1/16W ±100ppm/°C Molded SMD Paper T/R; Manufacturer: Yageo; Manufacturer Part Number: RC0402FR-07100KL; Power Rating: 63mW; Voltage Rating: 50V; Value: 100kR; Supplier: Future Electronics; Supplier Part Number: 6468466; RoHS: Yes; Category: Chip SMD Resistors; Stock: 34050000; Pricing: 10000=0.0007, 50000=0.0007, 200000=0.0007, 500000=0.0007, 1250000=0.0006 (USD); Case/Package: 0402; Case Code (Metric): 1005; Case Code (Imperial): 0402; Min Operating Temperature: -55°C; Max Operating Temperature: 155°C; Tolerance: 1%; Packaging: Tape and Reel; Resistor Type: Thick Film; Number of Terminations: 2; Termination: SMD/SMT; Temperature Coefficient: 100ppm/°C; Max Power Dissipation: 63mW; Features: Moisture Resistant; Series: RC; Resistance Tolerance: 1%; Construction: Rectangular; Technology: THICK FILM; Voltage Rating (AC): 50V; Package Quantity: 1; Length: 0.039inch; Width: 0.02inch; Height: 0.016inch; Depth: 0.5mm; Reach SVHC Compliant: No; Military Standard: Not; Lead Free: Lead Free; RoHS Compliant: Yes
pins: 1, 2

## RC0402FR-07160RL
designator R?, comment RES 160 OHM 1% 1/16W 0402
SMD Chip Resistor, 160 Ohm, ï¿½ 1%, 63 mW, 0402 [1005 Metric], Thick Film, General Purpose; Manufacturer: Yageo; Manufacturer Part Number: RC0402FR-07160RL; Power Rating: 63mW; Voltage Rating: 50V; Value: 160R; Temperature Coefficient: 100ppm/°C; Supplier: Digikey; Supplier Part Number: 311-160LRCT-ND; RoHS: Yes; Category: Chip SMD Resistors; Stock: 58812; Pricing: 1=0.1, 10=0.007, 100=0.0041, 1000=0.00357, 2500=0.00306 (USD); Case/Package: 0402; Pins: 2; Case Code (Metric): 1005; Case Code (Imperial): 0402; Min Operating Temperature: -55°C; Max Operating Temperature: 155°C; Tolerance: 1%; Package Quantity: 1; Packaging: Tape and Reel; Resistor Type: Thick Film; Number of Terminations: 2; Termination: SMD/SMT; Max Power Dissipation: 63mW; Voltage Rating (DC): 50V; Features: Moisture Resistant; Series: RC; Construction: Rectangular; Resistance Tolerance: 1%; Length: 1mm; Width: 0.5mm; Height: 0.016inch; Depth: 0.5mm; Reach SVHC Compliant: No; Military Standard: Not; Lead Free: Lead Free; RoHS Compliant: Yes; ComponentLink1URL: https://datasheet.ciiva.com/2453/pyu-r-int-thick-7-2453577.pdf?src-supplier=Digikey; ComponentLink1Description: https://datasheet.ciiva.com/2453/pyu-r-int-thick-7-2453577.pdf?src-supplier=Digikey; ComponentLink2URL: https://datasheet.ciiva.com/2453/pyu-r-int-thick-7-2453578.pdf?src-supplier=Digikey; ComponentLink2Description: https://datasheet.ciiva.com/2453/pyu-r-int-thick-7-2453578.pdf?src-supplier=Digikey; ComponentLink3URL: https://datasheet.ciiva.com/2453/pyu-r-int-thick-7-2453579.pdf?src-supplier=Digikey; ComponentLink3Description: https://datasheet.ciiva.com/2453/pyu-r-int-thick-7-2453579.pdf?src-supplier=Digikey; ComponentLink4URL: https://datasheet.ciiva.com/7849/1018594-7849845.pdf?src-supplier=Element14; ComponentLink4Description: https://datasheet.ciiva.com/7849/1018594-7849845.pdf?src-supplier=Element14; ComponentLink5URL: https://datasheet.ciiva.com/7849/1018594-7849846.pdf?src-supplier=Element14; ComponentLink5Description: https://datasheet.ciiva.com/7849/1018594-7849846.pdf?src-supplier=Element14; ComponentLink6URL: https://datasheet.ciiva.com/16742/pyu-rc0402-51-rohs-l-6-r-16742782.pdf?src-supplier=Future+Electronics; ComponentLink6Description: https://datasheet.ciiva.com/16742/pyu-rc0402-51-rohs-l-6-r-16742782.pdf?src-supplier=Future+Electronics; ComponentLink7URL: https://datasheet.ciiva.com/26829/getdatasheetpartid-325097-26829915.pdf?src-supplier=Verical; ComponentLink7Description: https://datasheet.ciiva.com/26829/getdatasheetpartid-325097-26829915.pdf?src-supplier=Verical
pins: 1, 2

## RC0402JR-070RL
designator R?, comment 0R
RES 0 OHM JUMPER 1/16W 0402; Manufacturer: Yageo; Manufacturer Part Number: RC0402JR-070RL; Value: 0mR; Power Rating: 62.5mW; Tolerance: 5%; Voltage Rating: 50V; Max Power Dissipation: 63mW; Temperature Coefficient: 200ppm/°C; Supplier: Digikey; Supplier Part Number: 311-0.0JRCT-ND; RoHS: Yes; Category: Chip SMD Resistors; Stock: 10747354; Pricing: 1=0.1, 10=0.01, 25=0.0064, 50=0.0054, 100=0.0047, 250=0.00392, 500=0.00346, 1000=0.00304, 5000=0.0023, 10000=0.00206, 20000=0.00185, 30000=0.00175, 50000=0.00163, 70000=0.00155, 100000=0.00148, 250000=0.00133, 500000=0.00123, 1000000=0.00115 (USD); Case/Package: 0402; Case Code (Metric): 1005; Case Code (Imperial): 0402; Contact Plating: Tin,Matte; Min Operating Temperature: -55°C; Max Operating Temperature: 155°C; Package Quantity: 1; Packaging: Tape and Reel; Resistor Type: Thick Film; Number of Terminations: 2; Termination: SMD/SMT; Features: Moisture Resistant; Series: RC; Technology: THICK FILM; Resistance Tolerance: 5%; Construction: Rectangular; Length: 1mm; Width: 0.02inch; Height: 0.016inch; Depth: 0.5mm; Military Standard: Not; Lead Free: Lead Free; RoHS Compliant: Yes; Reach SVHC Compliant: Unknown; ComponentLink1URL: https://datasheet.ciiva.com/2452/pyu-rc0402-51-rohs-l-6-2452608.pdf?src-supplier=Digikey; ComponentLink1Description: https://datasheet.ciiva.com/2452/pyu-rc0402-51-rohs-l-6-2452608.pdf?src-supplier=Digikey; ComponentLink2URL: https://datasheet.ciiva.com/11808/0900766b80c66297-11808195.pdf?src-supplier=Rs; ComponentLink2Description: https://datasheet.ciiva.com/11808/0900766b80c66297-11808195.pdf?src-supplier=Rs; ComponentLink3URL: https://datasheet.ciiva.com/2452/pyu-r-int-thick-7-2452609.pdf?src-supplier=Digikey; ComponentLink3Description: https://datasheet.ciiva.com/2452/pyu-r-int-thick-7-2452609.pdf?src-supplier=Digikey; ComponentLink4URL: https://datasheet.ciiva.com/2452/pyu-r-int-thick-7-2452610.pdf?src-supplier=Digikey; ComponentLink4Description: https://datasheet.ciiva.com/2452/pyu-r-int-thick-7-2452610.pdf?src-supplier=Digikey; ComponentLink5URL: https://datasheet.ciiva.com/8896/pyu-rc0402-51-rohs-l-6-8896201.pdf?src-supplier=Avnet; ComponentLink5Description: https://datasheet.ciiva.com/8896/pyu-rc0402-51-rohs-l-6-8896201.pdf?src-supplier=Avnet; ComponentLink6URL: https://datasheet.ciiva.com/15189/getdatasheetpartid-326379-15189533.pdf?src-supplier=Verical; ComponentLink6Description: https://datasheet.ciiva.com/15189/getdatasheetpartid-326379-15189533.pdf?src-supplier=Verical; ComponentLink7URL: https://datasheet.ciiva.com/7983/1018594-7983535.pdf?src-supplier=Element14; ComponentLink7Description: https://datasheet.ciiva.com/7983/1018594-7983535.pdf?src-supplier=Element14; ComponentLink8URL: https://datasheet.ciiva.com/22747/1018594-22747515.pdf?src-supplier=Element14; ComponentLink8Description: https://datasheet.ciiva.com/22747/1018594-22747515.pdf?src-supplier=Element14; LCSC PART Number: C60485
footprint RESC1005X37N
pins: 1, 2

## RL1206FR-070R018L
designator R?, comment RES 0.018 OHM 1% 1/4W 1206
Res Thick Film 1206 0.018 Ohm 1% 1/4W ±1500ppm/°C Molded SMD SMD Paper T/R; Manufacturer: Yageo; Manufacturer Part Number: RL1206FR-070R018L; Value: 18mR; Power Rating: 250mW; Supplier: Digikey; Supplier Part Number: 311-.018LWCT-ND; RoHS: Yes; Category: Chip SMD Resistors; Stock: 9267; Pricing: 1=0.39, 10=0.14, 100=0.0938 (USD); Mounting Technology: Surface Mount; Case/Package: 1206; Case Code (Imperial): 1206; Case Code (Metric): 3216; Contact Plating: Tin,Matte; Weight: 0.000571oz; Min Operating Temperature: -55°C; Max Operating Temperature: 125°C; Tolerance: 1%; Packaging: Tape and Reel; Termination: SMD/SMT; Temperature Coefficient: 1500ppm/°C; Package Quantity: 5000; Features: Moisture Resistant,Automotive AEC-Q200; Series: RL; Max Power Dissipation: 250mW; Number of Terminations: 2; Technology: THICK FILM; Length: 3.1mm; Width: 1.6mm; Height: 0.55mm; Depth: 1.6mm; Ratings: AEC-Q200; Lead Free: Lead Free; RoHS Compliant: Yes; ComponentLink1URL: https://datasheet.ciiva.com/11819/0900766b808536cc-11819987.pdf?src-supplier=Rs; ComponentLink1Description: https://datasheet.ciiva.com/11819/0900766b808536cc-11819987.pdf?src-supplier=Rs; ComponentLink2URL: https://datasheet.ciiva.com/15328/pyu-rl-521-rohs-l-5-15328585.pdf?src-supplier=Mouser; ComponentLink2Description: https://datasheet.ciiva.com/15328/pyu-rl-521-rohs-l-5-15328585.pdf?src-supplier=Mouser
pins: 1, 2

## RT0402BRD07100RL
designator R?, comment 100R
100 Ohms ±0.1% 0.063W, 1/16W Chip Resistor 0402 (1005 Metric) Thin Film; Manufacturer: Yageo; Manufacturer Part Number: RT0402BRD07100RL; Description: SMD Chip Resistor, 100 Ohm, ± 0.1%, 63 mW, 0402 [1005 Metric], Thin Film, High Precision High Stability; Power Rating: 62.5mW; Voltage Rating: 50V; Max Power Dissipation: 63mW; Temperature Coefficient: 25ppm/°C; Supplier: Future Electronics; Supplier Part Number: 1099085; RoHS: Yes; Category: Chip SMD Resistors; Stock: 7178; Pricing: 1=0.147, 20=0.109, 150=0.0828, 1000=0.0585, 5000=0.0379 (USD); Case/Package: 0402; Case Code (Imperial): 0402; Case Code (Metric): 1005; Weight: 2.3E-05oz; Contact Plating: Tin,Lead; Min Operating Temperature: -55°C; Max Operating Temperature: 155°C; Value: 100R; Tolerance: 0.1%; Packaging: Tape and Reel; Number of Terminations: 2; Package Quantity: 10000; Termination: SMD/SMT; Voltage Rating (DC): 50V; Features: Moisture Resistant; Series: RT; Length: 0.039inch; Width: 0.5mm; Height: 0.014inch; Lead Free: Lead Free; RoHS Compliant: Yes; ComponentLink1URL: https://datasheet.ciiva.com/12797/pyu-rt-1-to-0-05-rohs-l-4-12797129.pdf?src-supplier=Mouser; ComponentLink1Description: https://datasheet.ciiva.com/12797/pyu-rt-1-to-0-05-rohs-l-4-12797129.pdf?src-supplier=Mouser
pins: 1, 2